# Altium schematic symbol library power.SchLib: 2 symbols
Pins are listed as number, name and electrical type; pins without a type are passive.

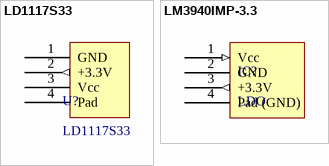
[diagram p0: symbols LD1117S33 to LM3940IMP-3.3]

## LD1117S33
designator U?
Linear voltage regulator. / Uin, V: 15 V / Uout,V: 3,3 V / Iout,A: 0,8 A / Udrop, V: 1,1 V
footprint SOT230P700X180-4N (SOT223, 4-Leads, Body 6.50x7.00mm (avg), Pitch 2.30mm, IPC Medium Density)
pins: 1 GND, 2 +3.3V (out), 3 Vcc, 4 Pad

## LM3940IMP-3.3
designator IC?, comment LDO
LDO voltage regulator. / IN: 4.5V - 5.5V / OUT: 3.3V; ComponentLink1Description: Datasheet; ComponentLink1URL: https://www.ti.com/lit/ds/symlink/lm3940.pdf; ComponentLink2Description: rcscomponents; ComponentLink2URL: https://www.rcscomponents.kiev.ua/product/lm3940imp-3-3-nopb_32246.html; ComponentLink3Description: Mouser; ComponentLink3URL: https://eu.mouser.com/ProductDetail/Texas-Instruments/LM3940IMP-3.3-NOPB?qs=QbsRYf82W3EIVCEt3IRFTQ%3D%3D&srsltid=AfmBOorg8hqzI-HA3PvQj6bcO1LosyJxFIDZmXf61J2HGG2munIuMdGH
footprint SOT230P700X180-4N (SOT223, 4-Leads, Body 6.50x7.00mm (avg), Pitch 2.30mm, IPC Medium Density)
pins: 1 Vcc (in), 2 GND, 3 +3.3V (out), 4 Pad (GND)